# EAGLE library part 749196141 (library HVPS_SMD-eagle)
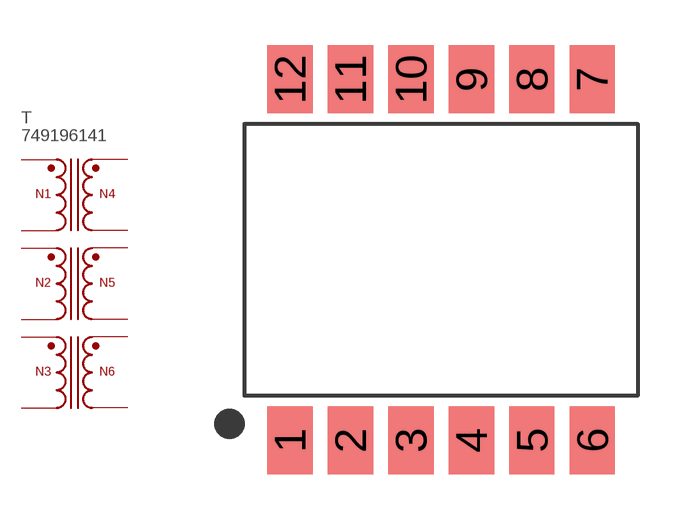
[diagram p1: symbol with the pads of 749196141; footprint 749196141]

Designator prefix T

## 749196141  [749196141]
1  N1  pas
2  N2  pas
3  N3  pas
4  N1  pas
5  N2  pas
6  N3  pas
7  N4  pas
8  N5  pas
9  N6  pas
10  N4  pas
11  N5  pas
12  N6  pas

## Footprint 749196141 (pad centres in mm)
smd 1.5 x 2.25: 1 -5,-5.975; 2 -3,-5.975; 3 -1,-5.975; 4 1,-5.975; 5 3,-5.975; 6 5,-5.975; 7 5,5.975; 8 3,5.975; 9 1,5.975; 10 -1,5.975; 11 -3,5.975; 12 -5,5.975